# Altium schematic symbol library relays.SchLib: 5 symbols
Pins are listed as number, name and electrical type; pins without a type are passive.

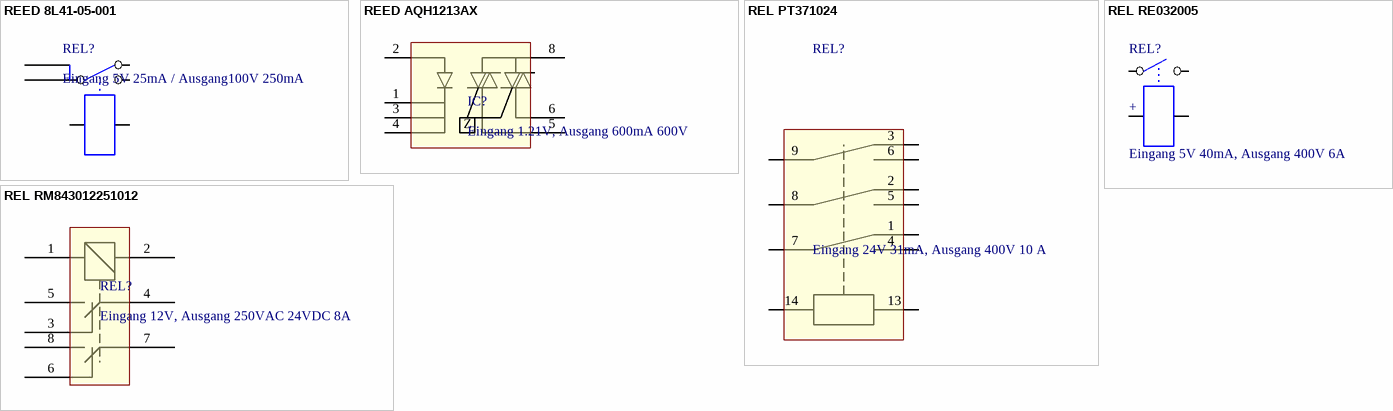
[diagram p0: symbols REED 8L41-05-001 to REL RM843012251012]

## REED 8L41-05-001
designator REL?, comment Eingang 5V 25mA / Ausgang100V 250mA
RELAY REED SPDT 250MA 5V; Manufacturer: Coto Technology; Manufacturer Part Number: 8L41-05-001; Created by: Nils Minor; Value: Eingang 5V 25mA / Ausgang100V 250mA
footprint 8L41
pins: 1, 2, 6, 7, 8, 14

## REED AQH1213AX
designator IC?, comment Eingang 1.21V, Ausgang 600mA 600V
SSR AC MOD 0.6A ZERO 600V SMD; Manufacturer: Panasonic; Manufacturer Part Number: AQH1213AX; Created by: Nils Minor; Value: Eingang 1.21V, Ausgang 600mA 600V
footprint AQH0213AX
pins: 1, 2, 3, 4, 5, 6, 8
text: Z

## REL PT371024
designator REL?, comment Eingang 24V 31mA, Ausgang 400V 10 A
RELAY GEN PURPOSE 3PDT 10A 24V; Manufacturer: TE Connectivity; Manufacturer Part Number: PT371024; Created by: Nils Minor; Value: Eingang 24V 31mA, Ausgang 400V 10 A
footprint PT371024 (Tyco Relais 3-pole)
pins: 1, 2, 3, 4, 5, 6, 7, 8, 9, 13 A1, 14 A2

## REL RE032005
designator REL?, comment Eingang 5V 40mA, Ausgang 400V 6A
RELAY GENERAL PURPOSE SPST 6A 5V; Manufacturer: TE Connectivity; Manufacturer Part Number: RE032005; Created by: Nils Minor; Value: Eingang 5V 40mA, Ausgang 400V 6A
footprint RE032005
pins: 1, 3, 4, 6
text: +

## REL RM843012251012
designator REL?, comment Eingang 12V, Ausgang 250VAC 24VDC 8A
POWER RELAY 12V 8A 2CO THT; Manufacturer: Relpol; Manufacturer Part Number: RM843012251012; Created by: Nils Minor; Value: Eingang 12V, Ausgang 250VAC 24VDC 8A
footprint RM84-3012-25-1012
pins: 1, 2, 3, 4, 5, 6, 7, 8